# EAGLE library part UIAPDUINO-PRO-MICRO-CH32V003-V1DOT4 (library UIAP-Devices)
UIAPduino Pro Micro CH32V003 V1.4 Reference: https://www.uiap.jp/en/uiapduino/pro-micro/ch32v003/v1dot4
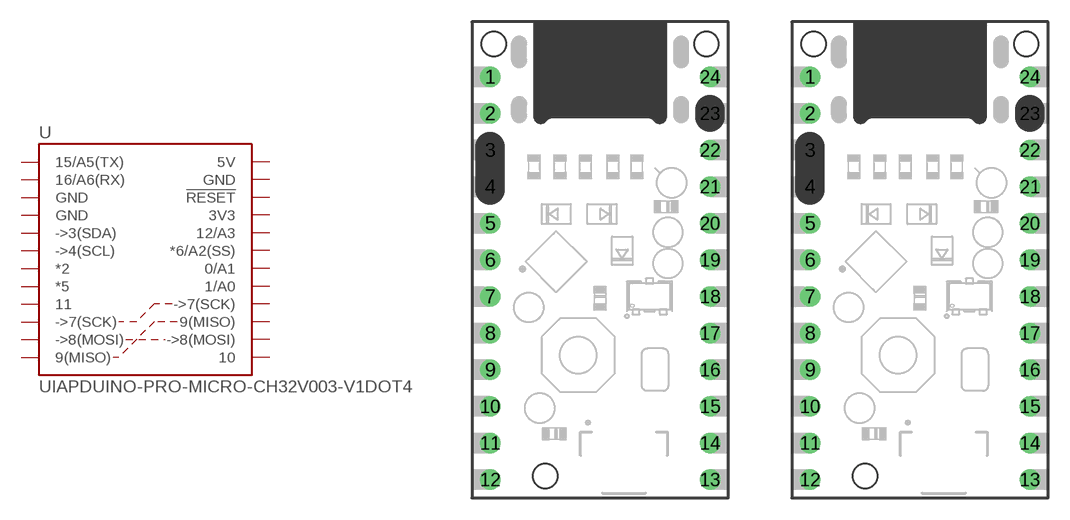
[diagram p0: symbol with the pads of UIAPDUINO-PRO-MICRO-CH32V003-V1DOT4; footprints UIAPDUINO-PRO-MICRO-CH32V003-V1DOT4, UIAPDUINO-PRO-MICRO-CH32V003-V1DOT4-HOLES]

Designator prefix U

## UIAPDUINO-PRO-MICRO-CH32V003-V1DOT4  [UIAPDUINO-PRO-MICRO-CH32V003-V1DOT4]
1  15/A5(TX)
2  16/A6(RX)
3  GND  pwr
4  GND  pwr
5  ->3(SDA)
6  ->4(SCL)
7  *2
8  *5
9  11
10  ->7(SCK)
11  ->8(MOSI)
12  9(MISO)
13  10
14  ->8(MOSI)
15  9(MISO)
16  ->7(SCK)
17  1/A0
18  0/A1
19  *6/A2(SS)
20  12/A3
21  3V3  pwr
22  !RESET!
23  GND  pwr
24  5V  pwr

## UIAPDUINO-PRO-MICRO-CH32V003-V1DOT4-HOLES  [UIAPDUINO-PRO-MICRO-CH32V003-V1DOT4-HOLES]
Pads as for UIAPDUINO-PRO-MICRO-CH32V003-V1DOT4

## UIAPDUINO-PRO-MICRO-CH32V003-V1DOT4-SMD  [UIAPDUINO-PRO-MICRO-CH32V003-V1DOT4-SMD]
Pads as for UIAPDUINO-PRO-MICRO-CH32V003-V1DOT4

## Footprint UIAPDUINO-PRO-MICRO-CH32V003-V1DOT4 (pad centres in mm)
Popular design Specifications: Inner diameter of the through holes are 0.9mm. It can be connected by ConthroughⓇ. Version: 1.0.0, 2025/01/26 Design: Yuuki Umeta, CC BY-SA 4.0 https://creativecommons.org/licenses/by-sa/4.0/
drill 0.9 pad 1.016: 1 -7.62,12.7; 2 -7.62,10.16; 3 -7.62,7.62; 4 -7.62,5.08; 5 -7.62,2.54; 6 -7.62,0; 7 -7.62,-2.54; 8 -7.62,-5.08; 9 -7.62,-7.62; 10 -7.62,-10.16; 11 -7.62,-12.7; 12 -7.62,-15.24; 13 7.62,-15.24; 14 7.62,-12.7; 15 7.62,-10.16; 16 7.62,-7.62; 17 7.62,-5.08; 18 7.62,-2.54; 19 7.62,0; 20 7.62,2.54; 21 7.62,5.08; 22 7.62,7.62; 23 7.62,10.16; 24 7.62,12.7

## Footprint UIAPDUINO-PRO-MICRO-CH32V003-V1DOT4-HOLES (pad centres in mm)
Anti-coming off with holes mounting Specifications: Inner diameter of the through holes are 0.9mm. It can be connected by ConthroughⓇ. Inner diameter of the three mounting holes are 1.7mm. Version: 1.0.0, 2025/06/15 Design: Yuuki Umeta, CC BY-SA 4.0 https://creativecommons.org/licenses/by-sa/4.0/
drill 0.9 pad 1.016: 1 -7.62,12.7; 2 -7.62,10.16; 3 -7.62,7.62; 4 -7.62,5.08; 5 -7.62,2.54; 6 -7.62,0; 7 -7.62,-2.54; 8 -7.62,-5.08; 9 -7.62,-7.62; 10 -7.62,-10.16; 11 -7.62,-12.7; 12 -7.62,-15.24; 13 7.62,-15.24; 14 7.62,-12.7; 15 7.62,-10.16; 16 7.62,-7.62; 17 7.62,-5.08; 18 7.62,-2.54; 19 7.62,0; 20 7.62,2.54; 21 7.62,5.08; 22 7.62,7.62; 23 7.62,10.16; 24 7.62,12.7
hole 1.7 at -7.366,14.986
hole 1.7 at 7.366,14.986
hole 1.7 at -3.81,-14.986

## Footprint UIAPDUINO-PRO-MICRO-CH32V003-V1DOT4-SMD (pad centres in mm)
Like SMD using castellated holes Specifications: No through holes. Version: 1.0.0, 2025/06/15 Design: Yuuki Umeta, CC BY-SA 4.0 https://creativecommons.org/licenses/by-sa/4.0/
smd 1.422 x 1.422: 1 -9.017,12.7; 2 -9.017,10.16; 3 -9.017,7.62; 4 -9.017,5.08; 5 -9.017,2.54; 6 -9.017,0; 7 -9.017,-2.54; 8 -9.017,-5.08; 9 -9.017,-7.62; 10 -9.017,-10.16; 11 -9.017,-12.7; 12 -9.017,-15.24; 13 9.017,-15.24; 14 9.017,-12.7; 15 9.017,-10.16; 16 9.017,-7.62; 17 9.017,-5.08; 18 9.017,-2.54; 19 9.017,0; 20 9.017,2.54; 21 9.017,5.08; 22 9.017,7.62; 23 9.017,10.16; 24 9.017,12.7